# EAGLE library part 691401700015 (library Wurth_Terminal_Blocks_Connectors_rev15d)
WR-TBL Terminal block - serie 401 5,0mm - Spring clamp/Screw less - Vertical entry - 15p Code:Con_TBL_Screwless_5.00_6914017000xx_691401700015 <http://katalog.we-online.de/media/images/eican/Con_TBL_Screwless_5.00_6914017000xx_pf2.jpg> Details see: http://katalog.we-online.de/en/em/691_401_700_0xx/691_401_700_015?m Created 2014-12-22, aslant tao 2014 (C) Würth Elektronik
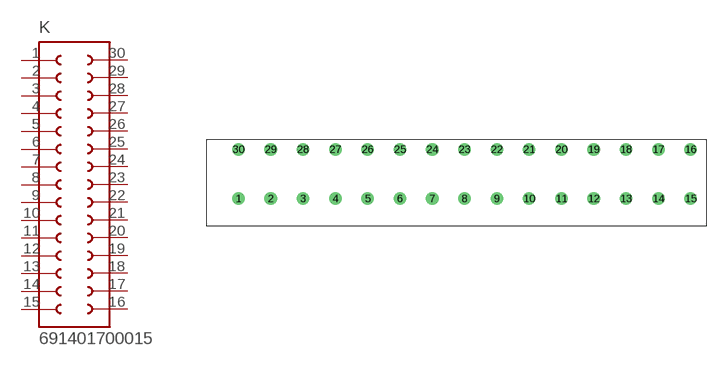
[diagram p271: symbol with the pads of 691401700015; footprint 691401700015]

Designator prefix K

## 691401700015  [691401700015]
1  1  pas
2  2  pas
3  3  pas
4  4  pas
5  5  pas
6  6  pas
7  7  pas
8  8  pas
9  9  pas
10  10  pas
11  11  pas
12  12  pas
13  13  pas
14  14  pas
15  15  pas
16  16  pas
17  17  pas
18  18  pas
19  19  pas
20  20  pas
21  21  pas
22  22  pas
23  23  pas
24  24  pas
25  25  pas
26  26  pas
27  27  pas
28  28  pas
29  29  pas
30  30  pas

## Footprint 691401700015 (pad centres in mm)
WR-TBL Serie 401 - 5.0mm Screwless Vertikal Entry - 2 mm2 Wires, 15 Pins
drill 1.3: 1 0,0; 2 5,0; 3 10,0; 4 15,0; 5 20,0; 6 25,0; 7 30,0; 8 35,0; 9 40,0; 10 45,0; 11 50,0; 12 55,0; 13 60,0; 14 65,0; 15 70,0; 16 70,7.62; 17 65,7.62; 18 60,7.62; 19 55,7.62; 20 50,7.62; 21 45,7.62; 22 40,7.62; 23 35,7.62; 24 30,7.62; 25 25,7.62; 26 20,7.62; 27 15,7.62; 28 10,7.62; 29 5,7.62; 30 0,7.62